# EAGLE library part VME_BP_J1 (library Atari)
VME Back Plane J1
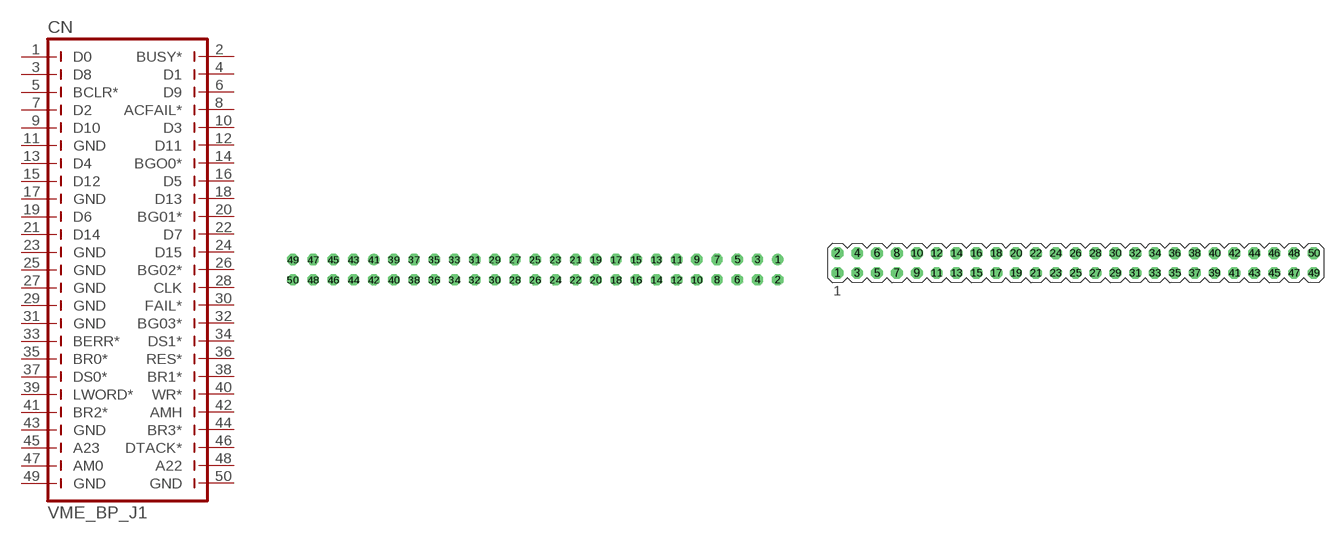
[diagram p3: symbol with the pads of HE14_FEMALE_50; footprints HE14_FEMALE_50, HE13_MALE_50]

Designator prefix CN

## VME_BP_J1FEMALE  [HE14_FEMALE_50]
1  D0  pas
2  BUSY*  pas
3  D8  pas
4  D1  pas
5  BCLR*  pas
6  D9  pas
7  D2  pas
8  ACFAIL*  pas
9  D10  pas
10  D3  pas
11  GND  pas
12  D11  pas
13  D4  pas
14  BGO0*  pas
15  D12  pas
16  D5  pas
17  GND  pas
18  D13  pas
19  D6  pas
20  BG01*  pas
21  D14  pas
22  D7  pas
23  GND  pas
24  D15  pas
25  GND  pas
26  BG02*  pas
27  GND  pas
28  CLK  pas
29  GND  pas
30  FAIL*  pas
31  GND  pas
32  BG03*  pas
33  BERR*  pas
34  DS1*  pas
35  BR0*  pas
36  RES*  pas
37  DS0*  pas
38  BR1*  pas
39  LWORD*  pas
40  WR*  pas
41  BR2*  pas
42  AMH  pas
43  GND  pas
44  BR3*  pas
45  A23  pas
46  DTACK*  pas
47  AM0  pas
48  A22  pas
49  GND  pas
50  GND  pas

## VME_BP_J1MALE  [HE13_MALE_50]
Pads as for HE14_FEMALE_50

## Footprint HE14_FEMALE_50 (pad centres in mm)
HE14 Female 2x25 pins
drill 0.914: 1 30.48,1.27; 41 -20.32,1.27
drill 0.914 octagon: 2 30.48,-1.27; 3 27.94,1.27; 4 27.94,-1.27; 5 25.4,1.27; 6 25.4,-1.27; 7 22.86,1.27; 8 22.86,-1.27; 9 20.32,1.27; 10 20.32,-1.27; 11 17.78,1.27; 12 17.78,-1.27; 13 15.24,1.27; 14 15.24,-1.27; 15 12.7,1.27; 16 12.7,-1.27; 17 10.16,1.27; 18 10.16,-1.27; 19 7.62,1.27; 20 7.62,-1.27; 21 5.08,1.27; 22 5.08,-1.27; 23 2.54,1.27; 24 2.54,-1.27; 25 0,1.27; 26 0,-1.27; 27 -2.54,1.27; 28 -2.54,-1.27; 29 -5.08,1.27; 30 -5.08,-1.27; 31 -7.62,1.27; 32 -7.62,-1.27; 33 -10.16,1.27; 34 -10.16,-1.27; 35 -12.7,1.27; 36 -12.7,-1.27; 37 -15.24,1.27; 38 -15.24,-1.27; 39 -17.78,1.27; 40 -17.78,-1.27; 42 -20.32,-1.27; 43 -22.86,1.27; 44 -22.86,-1.27; 45 -25.4,1.27; 46 -25.4,-1.27; 47 -27.94,1.27; 48 -27.94,-1.27; 49 -30.48,1.27; 50 -30.48,-1.27

## Footprint HE13_MALE_50 (pad centres in mm)
HE13 Male 2 x 25 pins
drill 1.016 octagon: 1 -29.21,-1.27; 2 -29.21,1.27; 3 -26.67,-1.27; 4 -26.67,1.27; 5 -24.13,-1.27; 6 -24.13,1.27; 7 -21.59,-1.27; 8 -21.59,1.27; 9 -19.05,-1.27; 10 -19.05,1.27; 11 -16.51,-1.27; 12 -16.51,1.27; 13 -13.97,-1.27; 14 -13.97,1.27; 15 -11.43,-1.27; 16 -11.43,1.27; 17 -8.89,-1.27; 18 -8.89,1.27; 19 -6.35,-1.27; 20 -6.35,1.27; 21 -3.81,-1.27; 22 -3.81,1.27; 23 -1.27,-1.27; 24 -1.27,1.27; 25 1.27,-1.27; 26 1.27,1.27; 27 3.81,-1.27; 28 3.81,1.27; 29 6.35,-1.27; 30 6.35,1.27; 31 8.89,-1.27; 32 8.89,1.27; 33 11.43,-1.27; 34 11.43,1.27; 35 13.97,-1.27; 36 13.97,1.27; 37 16.51,-1.27; 38 16.51,1.27; 39 19.05,-1.27; 40 19.05,1.27; 41 21.59,-1.27; 42 21.59,1.27; 43 24.13,-1.27; 44 24.13,1.27; 45 26.67,-1.27; 46 26.67,1.27; 47 29.21,-1.27; 48 29.21,1.27; 49 31.75,-1.27; 50 31.75,1.27